# EAGLE library part DRV8825CARRIER (library smoothio)
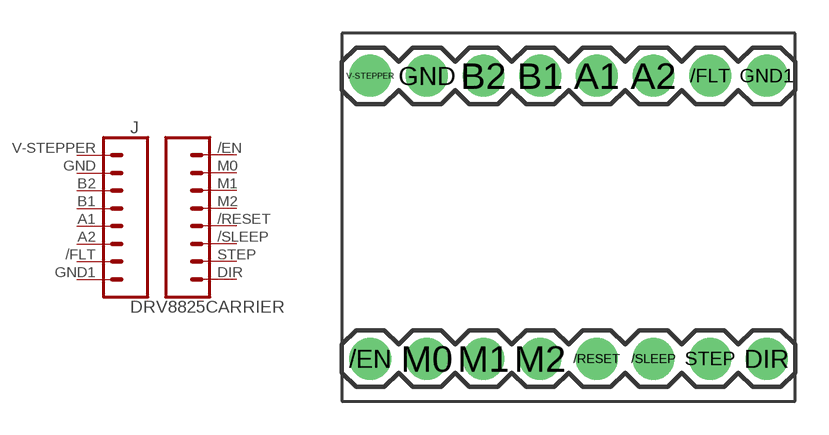
[diagram p0: symbol with the pads of DRV8825CARRIER; footprint DRV8825CARRIER]

Designator prefix J

## DRV8825CARRIER  [DRV8825CARRIER]
/EN  16  pas
/FLT  7  pas
/RESET  12  pas
/SLEEP  11  pas
A1  5  pas
A2  6  pas
B1  4  pas
B2  3  pas
DIR  9  pas
GND  2  pas
GND1  8  pas
M0  15  pas
M1  14  pas
M2  13  pas
STEP  10  pas
V-STEPPER  1  pas

## Footprint DRV8825CARRIER (pad centres in mm)
Plated Through Hole -8 Pin Specifications: Pin count:8 Pin pitch:0.1" Example device(s): CONN_08
drill 1.016 pad 1.88: /EN 0,0; /FLT 15.24,12.7; /RESET 10.16,0; /SLEEP 12.7,0; A1 10.16,12.7; A2 12.7,12.7; B1 7.62,12.7; B2 5.08,12.7; DIR 17.78,0; GND 2.54,12.7; GND1 17.78,12.7; M0 2.54,0; M1 5.08,0; M2 7.62,0; STEP 15.24,0; V-STEPPER 0,12.7